# EAGLE library part ESP32_ADAFRUIT_DEV (library eric_personal_parts)
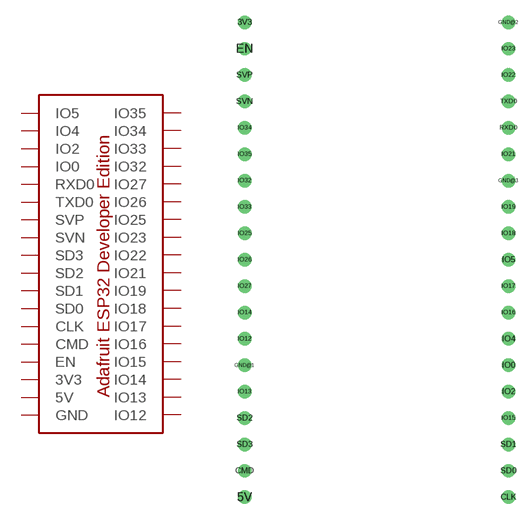
[diagram p9: symbol with the pads of ESP32_ADAFRUIT_DEV; footprint ESP32_ADAFRUIT_DEV]

Designator prefix -

## ESP32_ADAFRUIT_DEV  [ESP32_ADAFRUIT_DEV]
3V3  3V3
5V  5V
CLK  CLK
CMD  CMD
EN  EN
GND@1  GND
GND@2  GND
GND@3  GND
IO0  IO0
IO2  IO2
IO4  IO4
IO5  IO5
IO12  IO12
IO13  IO13
IO14  IO14
IO15  IO15
IO16  IO16
IO17  IO17
IO18  IO18
IO19  IO19
IO21  IO21
IO22  IO22
IO23  IO23
IO25  IO25
IO26  IO26
IO27  IO27
IO32  IO32
IO33  IO33
IO34  IO34
IO35  IO35
RXD0  RXD0
SD0  SD0
SD1  SD1
SD2  SD2
SD3  SD3
SVN  SVN
SVP  SVP
TXD0  TXD0

## Footprint ESP32_ADAFRUIT_DEV (pad centres in mm)
drill 0.787: 3V3 0,46.99; 5V 0,1.27; CLK 25.4,1.27; CMD 0,3.81; EN 0,44.45; GND@1 0,13.97; GND@2 25.4,46.99; GND@3 25.4,31.75; IO0 25.4,13.97; IO2 25.4,11.43; IO4 25.4,16.51; IO5 25.4,24.13; IO12 0,16.51; IO13 0,11.43; IO14 0,19.05; IO15 25.4,8.89; IO16 25.4,19.05; IO17 25.4,21.59; IO18 25.4,26.67; IO19 25.4,29.21; IO21 25.4,34.29; IO22 25.4,41.91; IO23 25.4,44.45; IO25 0,26.67; IO26 0,24.13; IO27 0,21.59; IO32 0,31.75; IO33 0,29.21; IO34 0,36.83; IO35 0,34.29; RXD0 25.4,36.83; SD0 25.4,3.81; SD1 25.4,6.35; SD2 0,8.89; SD3 0,6.35; SVN 0,39.37; SVP 0,41.91; TXD0 25.4,39.37